# EAGLE library part A3921 (library A3921)
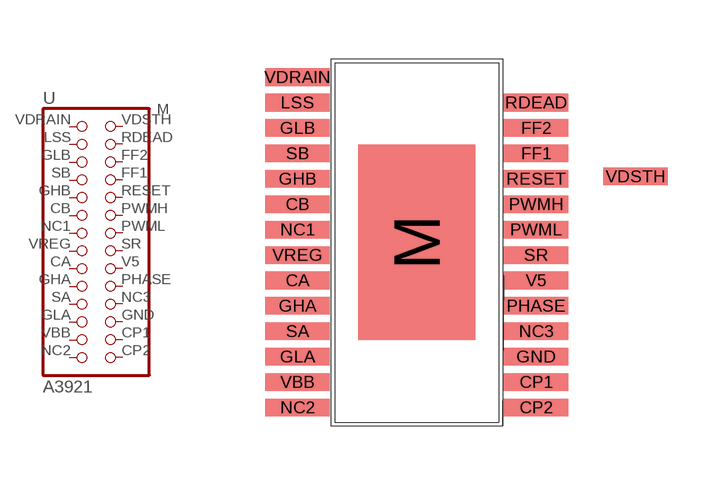
[diagram p0: symbol with the pads of A3921; footprint A3921]

Designator prefix -

## A3921  [A3921]
CA  CA  pas
CB  CB  pas
CP1  CP1  pas
CP2  CP2  pas
FF1  FF1  pas
FF2  FF2  pas
GHA  GHA  pas
GHB  GHB  pas
GLA  GLA  pas
GLB  GLB  pas
GND  GND  pas
LSS  LSS  pas
NC1  NC1  pas
NC2  NC2  pas
NC3  NC3  pas
PHASE  PHASE  pas
PWMH  PWMH  pas
PWML  PWML  pas
RDEAD  RDEAD  pas
RESET  RESET  pas
SA  SA  pas
SB  SB  pas
SR  SR  pas
V5  V5  pas
VBB  VBB  pas
VDRAIN  VDRAIN  pas
VDSTH  VDSTH  pas
VREG  VREG  pas

## Footprint A3921 (pad centres in mm)
smd 1.65 x 0.45: CA -3.05,-0.975; CB -3.05,0.975; CP1 3.05,-3.575; CP2 3.05,-4.225; FF1 3.05,2.275; FF2 3.05,2.925; GHA -3.05,-1.625; GHB -3.05,1.625; GLA -3.05,-2.925; GLB -3.05,2.925; GND 3.05,-2.925; LSS -3.05,3.575; NC1 -3.05,0.325; NC2 -3.05,-4.225; NC3 3.05,-2.275; PHASE 3.05,-1.625; PWMH 3.05,0.975; PWML 3.05,0.325; RDEAD 3.05,3.575; RESET 3.05,1.625; SA -3.05,-2.275; SB -3.05,2.275; SR 3.05,-0.325; V5 3.05,-0.975; VBB -3.05,-3.575; VDRAIN -3.05,4.225; VDSTH 5.59,1.685; VREG -3.05,-0.325
smd 3 x 5: M 0,0